# Altium footprint library Oscillators.PcbLib: 1 footprints
Each footprint in its own frame and in the unit in brackets; x right, y up, seen from the top. Pads: shape width x height; smd on the part's side, far side on the other; paste and mask are expansions set on the pad; w line width, h text height; cw(c..) or ccw(c..) is an arc to the next point about the centre after c.
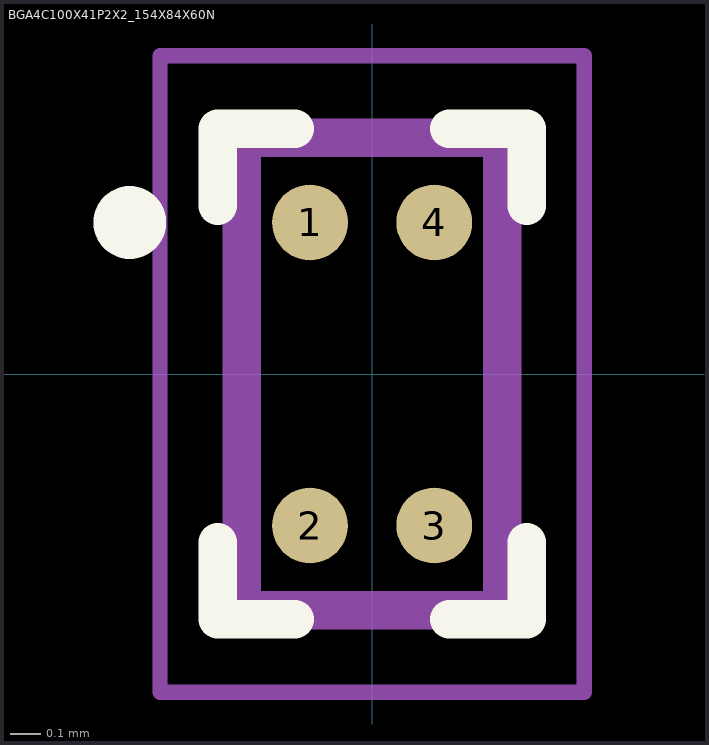
[diagram p0: the footprint, top view; thin cyan lines are the x and y axes]

## BGA4C100X41P2X2_154X84X60N [mm]
pads (4):
  round 0.25 smd: 1(-0.205,0.5) 2(-0.205,-0.5) 3(0.205,-0.5) 4(0.205,0.5)
Top Overlay:
  circle w0.2: c-0.8,0.5 r0.02
  lines w0.127: -0.51,-0.555 -0.51,-0.81 -0.255,-0.81 ; -0.51,0.555 -0.51,0.81 -0.255,0.81 ; 0.255,-0.81 0.51,-0.81 0.51,-0.555 ; 0.255,0.81 0.51,0.81 0.51,0.555
Mechanical 4:
  circle w0.2: c-0.2,0.5 r0.02
  circle w0.2: c-0.2,0.5 r0.02
  lines w0.127: -0.43,-0.78 -0.43,0.78 ; -0.43,-0.78 0.43,-0.78 ; -0.43,-0.78 -0.43,0.78 ; -0.43,-0.78 0.43,-0.78 ; -0.43,0.78 0.43,0.78 ; -0.43,0.78 0.43,0.78 ; 0.43,-0.78 0.43,0.78 ; 0.43,-0.78 0.43,0.78
Mechanical 16:
  lines w0.05: -0.7,-1.05 -0.7,1.05 0.7,1.05 0.7,-1.05 -0.7,-1.05
3D body: height 0.6, standoff 0.25, extent -0.508,-0.762 0.508,0.762
3D body: height 0.3, standoff 0, extent -0.347,-0.649 -0.054,-0.351
3D body: height 0.3, standoff 0, extent 0.063,-0.649 0.356,-0.351
3D body: height 0.3, standoff 0, extent 0.063,0.351 0.356,0.649
3D body: height 0.3, standoff 0, extent -0.347,0.351 -0.054,0.649